# Altium schematic symbol library Nexperia.SchLib: 4 symbols
Pins are listed as number, name and electrical type; pins without a type are passive.

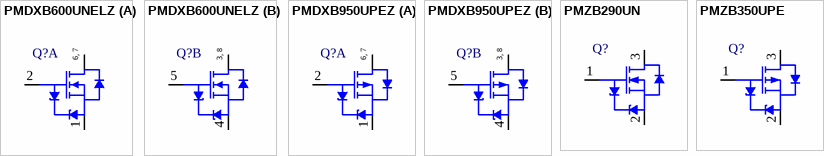
[diagram p0: symbols PMDXB600UNELZ to PMZB350UPE]

## PMDXB600UNELZ
designator Q?, comment Mosfet Array 2 N-Channel (Dual) 20V 600mA 380mW Surface Mount DFN1010B-6  (value not drawn)
20 V, DUAL N-CHANNEL TRENCH MOSF; Manufacturer: NXP Semiconductors; MPN: PMDXB600UNELZ; Ciss [typ] (pF): 43; VGSth [typ] (V): -0.7; ID [max] (A): -0.5; Coss [typ] (pF): 14; VDS [max] (V): -20; Channel Type: P; ComponentLink1Description: Manufacturer URL; ComponentLink2URL: http://www.nxp.com/documents/data_sheet/PMDXB950UPE.pdf; ComponentLink1URL: http://www.nxp.com/; PackageDescription: 6-Pin Small Outline No-Lead, Body 1.1 x 1 mm, Pitch 0.35 mm; ComponentLink3URL: http://www.nxp.com/documents/outline_drawing/sot1216_po.pdf; ComponentLink2Description: Datasheet; PackageVersion: 13-03-06, 03/2013; ComponentLink3Description: Package Specification; PackageReference: SOT1216; Mounting Technology: Surface Mount; DatasheetVersion: Rev. 1; Supplier 1: Digi-Key; Supplier Part Number 1: 1727-2600-1-ND
footprint NXP-SOT1216 (SON, 6-Leads, Body 1.15x1.05mm, Pitch 0.35mm, 2X Thermal Pad 0.35x0.25mm, IPC High Density)
part A pins: 1 S1 "sourse TR1", 2 G1 "gate TR1", 6 D1 "drain TR1", 7 D1 "drain TR1"
part B pins: 3 D2 "drain TR2", 4 S2 "sourse TR2", 5 G2 "gate TR2", 8 D2 "drain TR2"
part A text: 6, 7
part B text: 3, 8

## PMDXB950UPEZ
designator Q?, comment Mosfet Array 2 P-Channel (Dual) 20V 500mA 265mW Surface Mount DFN1010B-6  (value not drawn)
MOSFET 2P-CH 20V 0.5A 6DFN; Manufacturer: NXP Semiconductors; MPN: PMDXB950UPEZ; Ciss [typ] (pF): 43; VGSth [typ] (V): -0.7; ID [max] (A): -0.5; Coss [typ] (pF): 14; VDS [max] (V): -20; Channel Type: P; ComponentLink1Description: Manufacturer URL; ComponentLink2URL: http://www.nxp.com/documents/data_sheet/PMDXB950UPE.pdf; ComponentLink1URL: http://www.nxp.com/; PackageDescription: 6-Pin Small Outline No-Lead, Body 1.1 x 1 mm, Pitch 0.35 mm; ComponentLink3URL: http://www.nxp.com/documents/outline_drawing/sot1216_po.pdf; ComponentLink2Description: Datasheet; PackageVersion: 13-03-06, 03/2013; ComponentLink3Description: Package Specification; PackageReference: SOT1216; Mounting Technology: Surface Mount; DatasheetVersion: Rev. 1; Supplier 1: Digi-Key; Supplier Part Number 1: 1727-2279-1-ND
footprint NXP-SOT1216 (SON, 6-Leads, Body 1.15x1.05mm, Pitch 0.35mm, 2X Thermal Pad 0.35x0.25mm, IPC High Density)
part A pins: 1 S1 "sourse TR1", 2 G1 "gate TR1", 6 D1 "drain TR1", 7 D1 "drain TR1"
part B pins: 3 D2 "drain TR2", 4 S2 "sourse TR2", 5 G2 "gate TR2", 8 D2 "drain TR2"
part A text: 6, 7
part B text: 3, 8

## PMZB290UN
designator Q?, comment N-Channel 20V 1A (Ta) 360mW (Ta), 2.7W (Tc) Surface Mount DFN1006B-3  (value not drawn)
MOSFET N-CH 20V 1A 3DFN; MPN: PMZB290UN,315; Manufacturer: NXP Semiconductors; Channel Type: N; VGSth [typ] (V): -0.7; Packing: Reel; VDS [max] (V): -20; ComponentLink2Description: Datasheet; ComponentLink1URL: http://www.nxp.com/; Mounting Technology: Surface Mount; PackageVersion: 12-01-03, 01/2012; ComponentLink3Description: Package Specification; ComponentLink2URL: http://www.nxp.com/documents/data_sheet/PMZB350UPE.pdf; DatasheetVersion: Rev. 1; ComponentLink3URL: http://www.nxp.com/documents/outline_drawing/sot883b_po.pdf; ComponentLink1Description: Manufacturer URL; PackageDescription: 3-Pin Small Outline No-Lead, Body 0.6 x 1 mm, Pitch 0.35 mm; PackageReference: SOT883B; Supplier 1: Digi-Key; Supplier Part Number 1: 1727-1242-1-ND
footprint NXP-SOT883B (SON, 3-Leads, Body 1.05x0.65mm, Pitch 0.35mm, IPC High Density)
pins: 1 G "gate", 2 S "source", 3 D "drain"

## PMZB350UPE
designator Q?, comment P-Channel 20V 1A (Ta) 360mW (Ta), 3.125W (Tc) Surface Mount DFN1006B-3  (value not drawn)
MOSFET P-CH 20V 1A 3DFN; MPN: PMZB350UPE,315; Manufacturer: NXP Semiconductors; Channel Type: P; Coss [typ] (pF): 34; VGSth [typ] (V): -0.7; Packing: Reel; Ciss [typ] (pF): 127; VDS [max] (V): -20; ComponentLink2Description: Datasheet; ComponentLink1URL: http://www.nxp.com/; Mounting Technology: Surface Mount; PackageVersion: 12-01-03, 01/2012; ComponentLink3Description: Package Specification; ComponentLink2URL: http://www.nxp.com/documents/data_sheet/PMZB350UPE.pdf; DatasheetVersion: Rev. 1; ComponentLink3URL: http://www.nxp.com/documents/outline_drawing/sot883b_po.pdf; ComponentLink1Description: Manufacturer URL; PackageDescription: 3-Pin Small Outline No-Lead, Body 0.6 x 1 mm, Pitch 0.35 mm; PackageReference: SOT883B; Supplier 1: Digi-Key; Supplier Part Number 1: 1727-1243-1-ND
footprint NXP-SOT883B (SON, 3-Leads, Body 1.05x0.65mm, Pitch 0.35mm, IPC High Density)
pins: 1 G "gate", 2 S "source", 3 D "drain"